# Altium schematic symbol library Växelriktare_Kandidatarbete.SchLib: 1 symbol
Pins are listed as number, name and electrical type; pins without a type are passive.

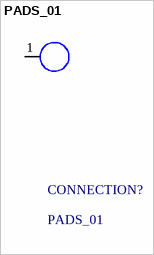
[diagram p0: symbol PADS_01]

## PADS_01
designator CONNECTION?
Pads for bigger Coil and capacitors outside your circuit
footprint PCBComponent_1
pins: 1